# EAGLE library part SIL_2X32_COMPONENT (library ++Bedrahtet)
SIL-Stecker 2 X 32 Pins
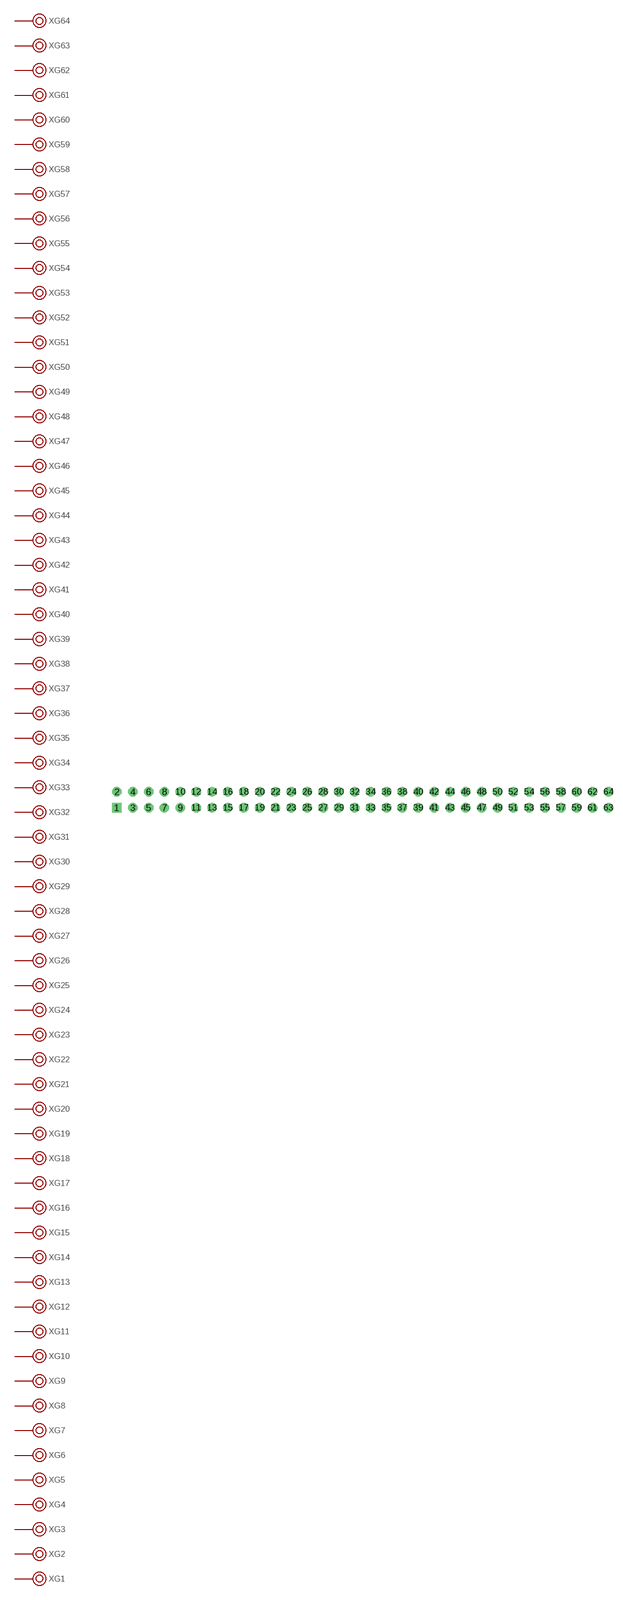
[diagram p9: symbol with the pads of SIL_2X32_SOLDER; footprint SIL_2X32_SOLDER]

Designator prefix X; gates G1=P G2=P G3=P G4=P G5=P G6=P G7=P G8=P G9=P G10=P G11=P G12=P G13=P G14=P G15=P G16=P G17=P G18=P G19=P G20=P G21=P G22=P G23=P G24=P G25=P G26=P G27=P G28=P G29=P G30=P G31=P G32=P G33=P G34=P G35=P G36=P G37=P G38=P G39=P G40=P G41=P G42=P G43=P G44=P G45=P G46=P G47=P G48=P G49=P G50=P G51=P G52=P G53=P G54=P G55=P G56=P G57=P G58=P G59=P G60=P G61=P G62=P G63=P G64=P

## SIL_2X32_COMPONENT  [SIL_2X32_SOLDER]
1  G1:P
2  G2:P
3  G3:P
4  G4:P
5  G5:P
6  G6:P
7  G7:P
8  G8:P
9  G9:P
10  G10:P
11  G11:P
12  G12:P
13  G13:P
14  G14:P
15  G15:P
16  G16:P
17  G17:P
18  G18:P
19  G19:P
20  G20:P
21  G21:P
22  G22:P
23  G23:P
24  G24:P
25  G25:P
26  G26:P
27  G27:P
28  G28:P
29  G29:P
30  G30:P
31  G31:P
32  G32:P
33  G33:P
34  G34:P
35  G35:P
36  G36:P
37  G37:P
38  G38:P
39  G39:P
40  G40:P
41  G41:P
42  G42:P
43  G43:P
44  G44:P
45  G45:P
46  G46:P
47  G47:P
48  G48:P
49  G49:P
50  G50:P
51  G51:P
52  G52:P
53  G53:P
54  G54:P
55  G55:P
56  G56:P
57  G57:P
58  G58:P
59  G59:P
60  G60:P
61  G61:P
62  G62:P
63  G63:P
64  G64:P

## Footprint SIL_2X32_SOLDER (pad centres in mm)
drill 1 pad 1.422 square: 1 0,0
drill 1 pad 1.422: 2 0,2.54; 3 2.54,0; 4 2.54,2.54; 5 5.08,0; 6 5.08,2.54; 7 7.62,0; 8 7.62,2.54; 9 10.16,0; 10 10.16,2.54; 11 12.7,0; 12 12.7,2.54; 13 15.24,0; 14 15.24,2.54; 15 17.78,0; 16 17.78,2.54; 17 20.32,0; 18 20.32,2.54; 19 22.86,0; 20 22.86,2.54; 21 25.4,0; 22 25.4,2.54; 23 27.94,0; 24 27.94,2.54; 25 30.48,0; 26 30.48,2.54; 27 33.02,0; 28 33.02,2.54; 29 35.56,0; 30 35.56,2.54; 31 38.1,0; 32 38.1,2.54; 33 40.64,0; 34 40.64,2.54; 35 43.18,0; 36 43.18,2.54; 37 45.72,0; 38 45.72,2.54; 39 48.26,0; 40 48.26,2.54; 41 50.8,0; 42 50.8,2.54; 43 53.34,0; 44 53.34,2.54; 45 55.88,0; 46 55.88,2.54; 47 58.42,0; 48 58.42,2.54; 49 60.96,0; 50 60.96,2.54; 51 63.5,0; 52 63.5,2.54; 53 66.04,0; 54 66.04,2.54; 55 68.58,0; 56 68.58,2.54; 57 71.12,0; 58 71.12,2.54; 59 73.66,0; 60 73.66,2.54; 61 76.2,0; 62 76.2,2.54; 63 78.74,0; 64 78.74,2.54